# Altium schematic symbol library DHT11.SchLib: 1 symbol
Pins are listed as number, name and electrical type; pins without a type are passive.

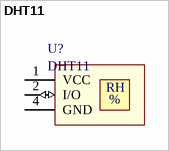
[diagram p0: symbol DHT11]

## DHT11
designator U?
Temperature and humidity module; value: DHT11
pins: 1 VCC (power), 2 I/O (io), 4 GND (power)
text: RH; %